# Altium schematic symbol library SoM.SchLib: 3 symbols
Pins are listed as number, name and electrical type; pins without a type are passive.

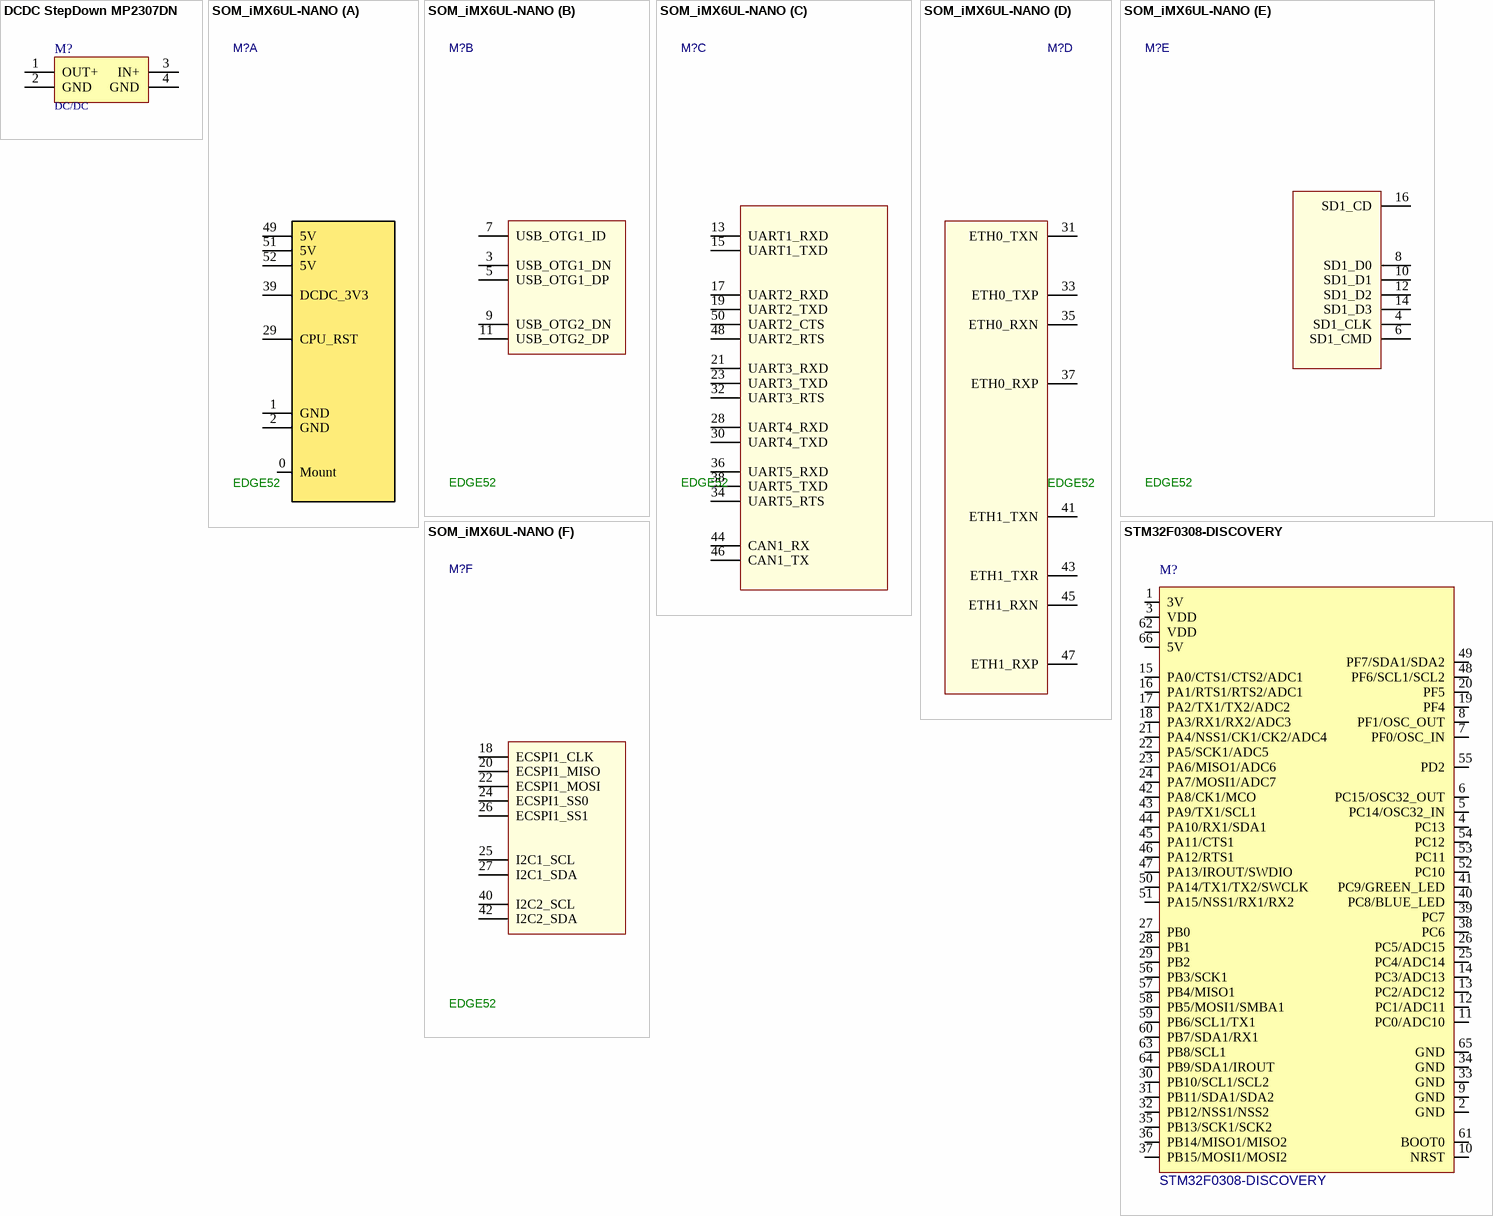
[diagram p0: symbols DCDC StepDown MP2307DN to STM32F0308-DISCOVERY]

## DCDC StepDown MP2307DN
designator M?, comment DC/DC
footprint DCDC-Down-MP2307
pins: 1 OUT+, 2 GND, 3 IN+, 4 GND

## SOM_iMX6UL-NANO
designator M?, comment EDGE52
footprint PCIEXPRESS_mini
part A pins: 0 Mount, 1 GND, 2 GND, 29 CPU_RST, 39 DCDC_3V3, 49 5V, 51 5V, 52 5V
part B pins: 3 USB_OTG1_DN, 5 USB_OTG1_DP, 7 USB_OTG1_ID, 9 USB_OTG2_DN, 11 USB_OTG2_DP
part C pins: 13 UART1_RXD, 15 UART1_TXD, 17 UART2_RXD, 19 UART2_TXD, 21 UART3_RXD, 23 UART3_TXD, 28 UART4_RXD, 30 UART4_TXD, 32 UART3_RTS, 34 UART5_RTS, 36 UART5_RXD, 38 UART5_TXD, 44 CAN1_RX, 46 CAN1_TX, 48 UART2_RTS, 50 UART2_CTS
part D pins: 31 ETH0_TXN, 33 ETH0_TXP, 35 ETH0_RXN, 37 ETH0_RXP, 41 ETH1_TXN, 43 ETH1_TXR, 45 ETH1_RXN, 47 ETH1_RXP
part E pins: 4 SD1_CLK, 6 SD1_CMD, 8 SD1_D0, 10 SD1_D1, 12 SD1_D2, 14 SD1_D3, 16 SD1_CD
part F pins: 18 ECSPI1_CLK, 20 ECSPI1_MISO, 22 ECSPI1_MOSI, 24 ECSPI1_SS0, 25 I2C1_SCL, 26 ECSPI1_SS1, 27 I2C1_SDA, 40 I2C2_SCL, 42 I2C2_SDA

## STM32F0308-DISCOVERY
designator M?
Описание / Отладочная плата на базе 32-разрядного микроконтроллера STM32F030R8T6 для оценки возможностей микроконтроллеров семейства STM32 F0 Value Line Cortex-M0 и создания на ее основе собственных решения. Плата содержит все необходимое быстрого начала разработки. / Технические характеристики: / - Микроконтроллер STM32F030R8T6: Flash- 64КБ, RAM- 8КБ; / - Разъемы расширения с вынесенными выводами I/O; / - Встроенный программатор-отладчик ST-Link/V2; / - Питание платы осуществляется через разъем USB; / - Светодиоды; / - Две кнопки;
footprint 32F0308DISCOVERY
pins: 1 3V, 2 GND, 3 VDD, 4 PC13, 5 PC14/OSC32_IN, 6 PC15/OSC32_OUT, 7 PF0/OSC_IN, 8 PF1/OSC_OUT, 9 GND, 10 NRST, 11 PC0/ADC10, 12 PC1/ADC11, 13 PC2/ADC12, 14 PC3/ADC13, 15 PA0/CTS1/CTS2/ADC1, 16 PA1/RTS1/RTS2/ADC1, 17 PA2/TX1/TX2/ADC2, 18 PA3/RX1/RX2/ADC3, 19 PF4, 20 PF5, 21 PA4/NSS1/CK1/CK2/ADC4, 22 PA5/SCK1/ADC5, 23 PA6/MISO1/ADC6, 24 PA7/MOSI1/ADC7, 25 PC4/ADC14, 26 PC5/ADC15, 27 PB0, 28 PB1, 29 PB2, 30 PB10/SCL1/SCL2, 31 PB11/SDA1/SDA2, 32 PB12/NSS1/NSS2, 33 GND, 34 GND, 35 PB13/SCK1/SCK2, 36 PB14/MISO1/MISO2, 37 PB15/MOSI1/MOSI2, 38 PC6, 39 PC7, 40 PC8/BLUE_LED, 41 PC9/GREEN_LED, 42 PA8/CK1/MCO, 43 PA9/TX1/SCL1, 44 PA10/RX1/SDA1, 45 PA11/CTS1, 46 PA12/RTS1, 47 PA13/IROUT/SWDIO, 48 PF6/SCL1/SCL2, 49 PF7/SDA1/SDA2, 50 PA14/TX1/TX2/SWCLK, 51 PA15/NSS1/RX1/RX2, 52 PC10, 53 PC11, 54 PC12, 55 PD2, 56 PB3/SCK1, 57 PB4/MISO1, 58 PB5/MOSI1/SMBA1, 59 PB6/SCL1/TX1, 60 PB7/SDA1/RX1, 61 BOOT0, 62 VDD, 63 PB8/SCL1, 64 PB9/SDA1/IROUT, 65 GND, 66 5V